# Altium footprint library Summits7Beta_LIB_Otros_PCB.PcbLib: 5 footprints
Each footprint in its own frame and in the unit in brackets; x right, y up, seen from the top. Pads: shape width x height; smd on the part's side, far side on the other; paste and mask are expansions set on the pad; w line width, h text height; cw(c..) or ccw(c..) is an arc to the next point about the centre after c.
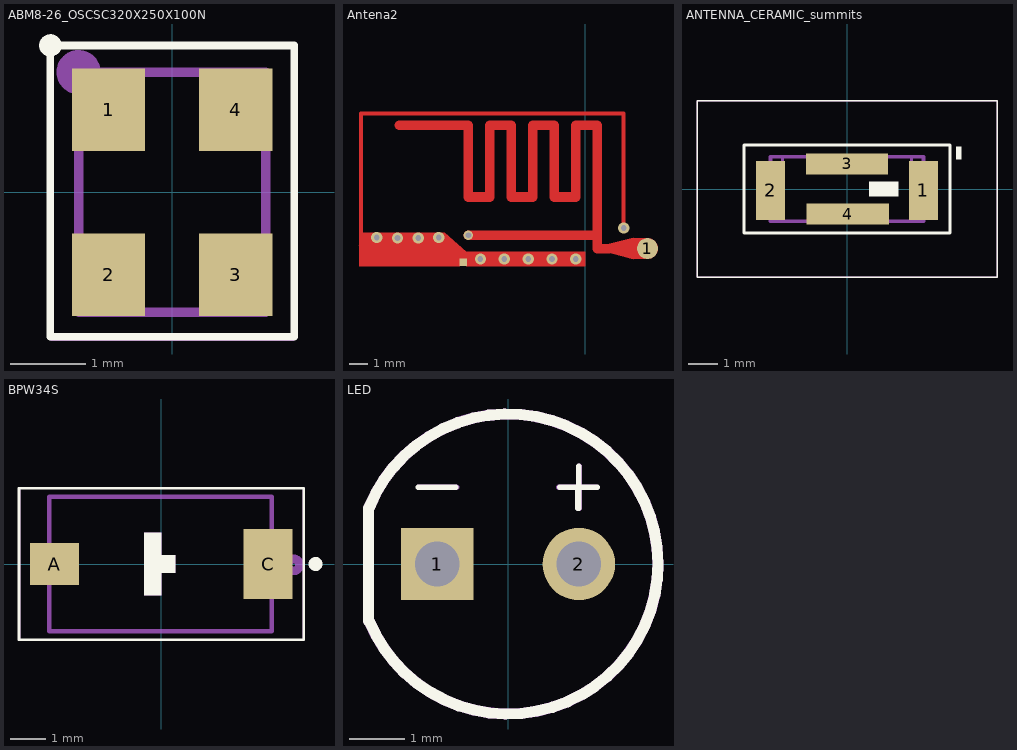
[diagram p0: the footprints below, top view; thin cyan lines are the x and y axes]

## ABM8-26_OSCSC320X250X100N [mm] "Crystal de 26MHz"
pads (4):
  rect 0.98x1.1 smd: 1(-0.85,1.1) 2(-0.85,-1.1) 3(0.85,-1.1) 4(0.85,1.1)
Top Overlay:
  circle w0.127: c-1.626,1.956 r0.086
  lines w0.102: -1.626,-1.93 -1.626,1.956 1.626,1.956 1.626,-1.93 -1.626,-1.93
Mechanical 13:
  circle w0.25: c-1.25,1.6 r0.17
  lines w0.1: -1.25,-0.75 -1.225,-0.725 -0.475,-0.725 -0.475,-1.6 ; -1.25,0.75 -0.5,0.75 -0.5,1.575 -0.475,1.6 ; 0.475,-1.6 0.5,-1.575 0.5,-0.725 1.25,-0.725 ; 0.475,1.6 0.5,1.575 0.5,0.75 1.25,0.75
  lines w0.127: -1.25,-1.6 1.25,-1.6 1.25,1.6 -1.25,1.6 -1.25,-1.6
  text "'.Designator'" at -0.9,-0.275 h0.5
Mechanical 15:
  lines w0.05: -1.61,-1.96 1.61,-1.96 1.61,1.96 -1.61,1.96 -1.61,-1.96
3D body "ABM8-26MHz.STEP": height 1.01, standoff 0.01, extent -1.25,-1.6 1.25,1.6

## Antena2 [mil] "Footprint Antena2"
pads (2):
  round 44 smd: 1(130,517)
  rect 15x15 smd: 2(-255.91,488.19)
via -307.09,540 diameter 23.62 hole 11.81
via -393.7,539.12 diameter 23.62 hole 11.81
via -350.39,539.12 diameter 23.62 hole 11.81
via -437.01,540 diameter 23.62 hole 11.81
via -220,495 diameter 23.62 hole 11.81
via -170,495 diameter 23.62 hole 11.81
via -120,495 diameter 23.62 hole 11.81
via -70,495 diameter 23.62 hole 11.81
via -20,495 diameter 23.62 hole 11.81
via 80,560 diameter 23.62 hole 11.81
via -245,545 diameter 20 hole 11.81
Top Layer:
  region: -262.8,480.31 -262.8,492.13 -295.67,525 -473.03,525 -474.41,523.62 -473.43,522.64 -473.43,480.31
  region: -335,515
  region: -250,510 -295,550 -325,550 -470,550 -470,525 -300,525 -250,480.31
  region: 0,480.31 -250,480.31 -250,510 0,510 0,490
  region: 49,505
  region: 50,527.12 100,539.12 100,495 50,507.77
  region: 48,500
  region: 25,495
  lines w7.87: -470,525 -470,800 80,800 80,560
  lines w20: -390,775 -245,775 -245,625 -200,625 -200,775 -155,775 -155,625 -110,625 -110,775 -65,775 -65,625 -20,625 -20,775 25,775 25,517 50,517 ; -245,545 25,545
  lines w44: 100,517 130,517
Top Solder:
  rectangle: -476.38,476.38 86.61,807.09

## ANTENNA_CERAMIC_summits [mm] "PCB CERAMIC ANTENNA"
pads (4):
  rect 1x2 smd: 1(2.6,-0.05) 2(-2.6,-0.05)
  rect 2.8x0.7 smd: 3(0,0.85) 4(0.025,-0.85)
Top Overlay:
  rectangle: 3.7,1 3.9,1.45
  rectangle: 0.75,-0.25 1.75,0.25
  lines w0.05: -5.1,-3 5.1,-3 5.1,3 -5.1,3 -5.1,-3
  lines w0.102: -3.5,-1.5 -3.5,1.5 3.5,1.5 3.5,-1.5 -3.5,-1.5
Mechanical 13:
  circle w0.25: c1.45,0 r0.09
  lines w0.1: -2.2,-1.1 -2.2,1.1 ; -1.325,1.1 -1.325,0.6 1.3,0.6 1.3,1.075 1.275,1.1 ; -1.312,-1.05 -1.312,-0.575 1.313,-0.575 1.313,-1.075 ; 2.2,-1.1 2.2,1.1
  lines w0.127: -2.6,-1.1 2.6,-1.1 2.6,1.1 -2.6,1.1 -2.6,-1.1
  text "'.Designator'" at -2,-0.25 h0.45
Mechanical 15:
  lines w0.05: -5.1,-3 5.1,-3 5.1,3 -5.1,3 -5.1,-3
3D body: height 2.63, standoff -2.63, extent -0.281,0.204 -0.281,0.204
3D body "AntennaCeramic--2450AT42B100E.STEP": height 2.11, standoff 0.01, extent -2.5,-1 2.5,1

## BPW34S [mm] "Footprint Fotodiodo"
pads (2):
  rect 1.4x1.2 smd paste-2 mask+0: A(-3.05,0)
  rect 1.4x2 smd paste-2 mask+0: C(3.05,0)
Top Overlay:
  circle w0.2: c4.4,0 r0.1
  region: 0,0.9 -0.5,0.9 -0.5,-0.9 0,-0.9
  region: 0.4,0.25 -0.25,0.25 -0.25,-0.25 0.4,-0.25
  lines w0.076: -4.064,-2.159 -4.064,2.159 4.064,2.159 4.064,-2.159 -4.064,-2.159
Top Paste:
  region: 3.7,-0.95 2.4,-0.95 2.4,0.95 3.7,0.95
  region: -2.4,-0.55 -3.7,-0.55 -3.7,0.55 -2.4,0.55
Top Solder:
  region: -2.3,-0.65 -3.8,-0.65 -3.8,0.65 -2.3,0.65
  region: 3.8,-1.05 2.3,-1.05 2.3,1.05 3.8,1.05
Mechanical 13:
  circle w0.25: c3.775,-0.025 r0.17
  region: 0.4,0.25 -0.25,0.25 -0.25,-0.25 0.4,-0.25
  region: 0,0.9 -0.5,0.9 -0.5,-0.9 0,-0.9
  lines w0.1: -3.2,-0.475 -2.475,-0.475 -2.475,0.5 -3.2,0.5 ; 3.15,-0.9 2.5,-0.9 2.5,0.95 3.15,0.95
  lines w0.127: -3.2,-1.925 -3.2,1.925 3.15,1.925 3.15,-1.925 -3.2,-1.925
  text "'.Designator'" at -2.95,1.15 h0.5
Mechanical 15:
  lines w0.05: -4.05,-2.175 -4.05,2.175 4.05,2.175 4.05,-2.175 -4.05,-2.175
3D body "Fotodiodo_VBPW34S.step": height 1.23, standoff 0.01, extent -3.203,-1.95 3.204,1.95

## LED [mm] "Led True Hole"
pads (2):
  rect 1.3x1.3 hole 0.8: 1(-1.27,0)
  round 1.3 hole 0.8: 2(1.27,0)
Top Overlay:
  lines w0.102: -1.613,1.375 -0.938,1.375 ; 0.927,1.375 1.602,1.375 1.27,1.375 1.27,1 1.27,1.75 ; 1.25,1 1.25,1.375 1.582,1.375
  lines w0.2: -2.5,-1.017 -2.5,1 ; -2.498,0.999 cw(c0,0) -2.49,-1.017
Mechanical 13:
  circle w0.25: c1.275,0 r0.17
  circle w0.25: c-1.25,0 r0.17
  lines w0.102: -1.6,1.375 -0.925,1.375 ; 0.907,1.375 1.582,1.375 ; 1.275,1 1.275,1.75
  lines w0.2: -2.5,-1.017 -2.5,1 ; -2.498,0.999 cw(c0,0) -2.492,-1.014
  text "'.Designator'" at -0.2,2.125 h0.5
Mechanical 15:
  lines w0.2: -2.5,-1.017 -2.5,1 ; -2.5,-0.993 ccw(c0,0) -2.498,0.999
3D body "LED-GREEN-5mm.step": height 15.98, standoff 0.01, extent -2.5,-2.95 2.95,2.95